# Altium schematic symbol library UWRT.SchLib: 11 symbols
Pins are listed as number, name and electrical type; pins without a type are passive.

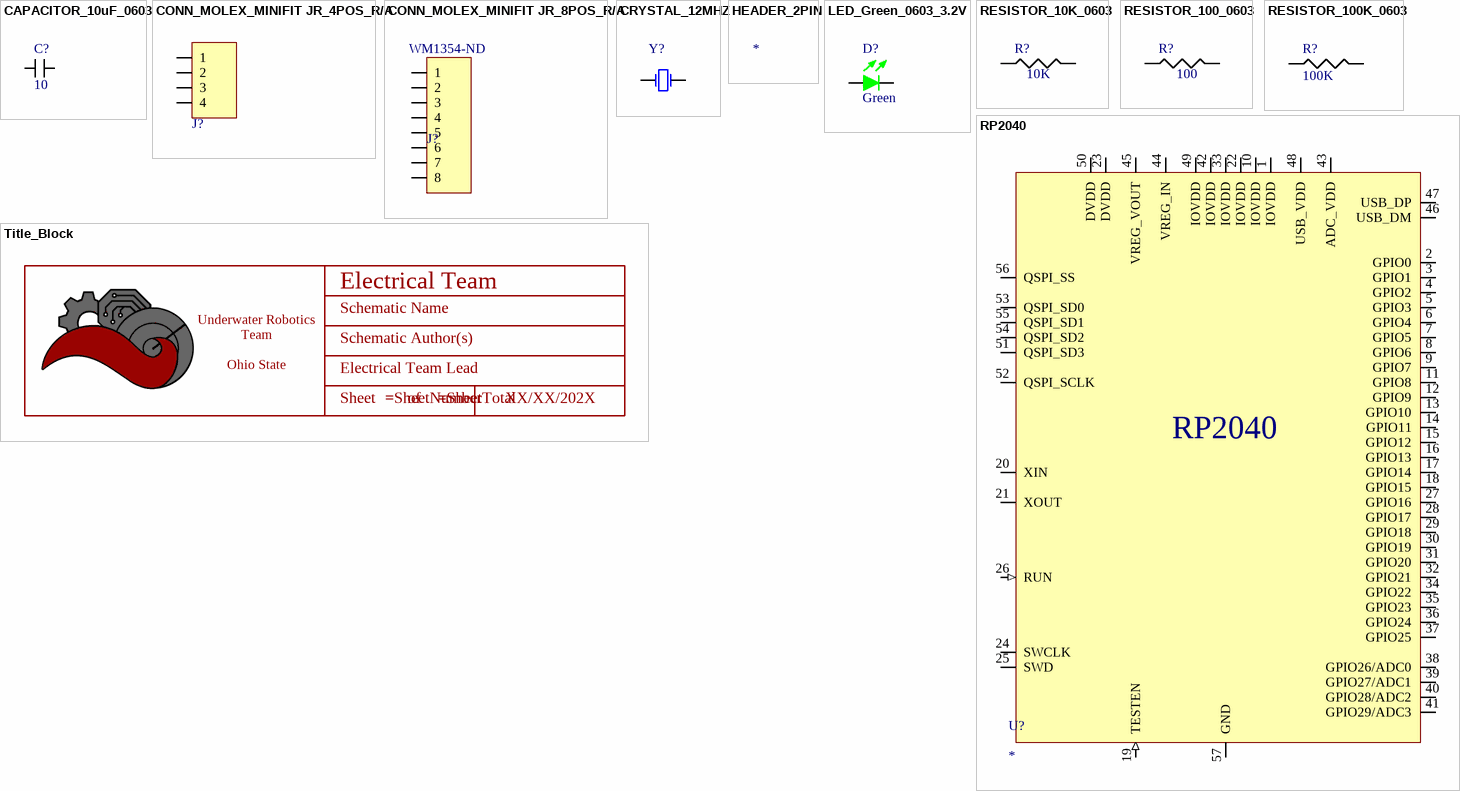
[diagram p0: symbols CAPACITOR_10uF_0603 to Title_Block]

## CAPACITOR_10uF_0603
designator C?, comment Value (uF): 10  (hidden comment: 10uF Ceramic 6.3V)
Cap 10uF 6.3V +/-20% / Ceramic 0603; Made By: Flip B; ComponentLink1Description: Digikey; ComponentLink1URL: https://www.digikey.com/en/products/detail/samsung-electro-mechanics/CL10A106MQ8NNNC/3886777; Supplier 1: Digi-Key; Supplier Part Number 1: 1276-1119-1-ND; Tolerance: +/- 20%; Voltage: 6.3V
footprint PASSIVE_CAPACITOR_0603
pins: 1, 2

## CONN_MOLEX_MINIFIT JR_4POS_R/A
designator J?, comment 4 POS R/A  (value not drawn)
Molex Minifit Jr. 5569 / 4 Pos R/A Natural; Pitch: 4.2mm; Configuration: Right Angle; Current Per Pin: 13A; Number of Positions: 4; Supplier Part Number 1: WM13112-ND; Supplier 1: Digi-Key; Manufacturer: Molex; Color: Natural; Created By: Flip B; ComponentLink1Description: Datasheet; ComponentLink1URL: https://www.molex.com/pdm_docs/sd/026013115_sd.pdf; Series: Minifit Jr 5569
footprint CONN_MOLEX_MINIFIT JR_4 POS_R/A (Molex Minifit Jr 5569 4 Pos R/A)
pins: 1, 2, 3, 4

## CONN_MOLEX_MINIFIT JR_8POS_R/A
designator J?, comment Supplier Part Number 1: WM1354-ND  (hidden comment: 8 POS R/A)
Molex Minifit Jr. 5569 / 8 Pos R/A Natural; Pitch: 4.2mm; Configuration: Right Angle; Current Per Pin: 13A; Number of Positions: 8; Manufacturer: Molex; Color: Natural; Created By: Flip B; ComponentLink1Description: Datasheet; ComponentLink1URL: https://www.molex.com/pdm_docs/ps/PS-5556-001.pdf; Series: Minifit Jr 5569; Supplier 1: Digi-Key
footprint CONN_MOLEX_MINIFIT JR_8 POS_R/A (Molex Minifit Jr 5569 8 Pos R/A)
pins: 1, 2, 3, 4, 5, 6, 7, 8

## CRYSTAL_12MHZ
designator Y?  (value not drawn)
CRYSTAL 12.0000MHZ 18PF TH; Supplier 1: Digi-Key; Supplier Part Number 1: 50-ECS-120-18-4X-CKM-ND
pins: 1, 2

## HEADER_2PIN
designator *  (value not drawn)

## LED_Green_0603_3.2V
designator D?, comment Color: Green  (hidden comment: 150060GS75000)
LED Green Vf= 3.2V If = 0.025A / 150060GS75000; Made By: Flip B; Forward Current: 25mA; Supplier 1: Digi-Key; ComponentLink1Description: Datasheet; ComponentLink1URL: https://www.we-online.de/katalog/datasheet/150060GS75000.pdf; Supplier Part Number 1: 732-4971-1-ND; Forward Voltage: 3.2V; Package: 0603
footprint LED_Green_0603_3.2V (LED Green 0603 3.2V)
pins: 1, 2

## RESISTOR_10K_0603
designator R?, comment Value  (Ohms): 10K  (hidden comment: 10k Ohm 5% 1/10W)
RES SMD 10K OHM 5% 1/10W 0603; Tolerance: +/- 5%; Made By: Robert P; ComponentLink1Description: Datasheet; ComponentLink1URL: https://www.bourns.com/docs/product-datasheets/CRxxxxx.pdf; Wattage: 1/10W; Supplier: Digikey; Digikey Part Numer: CR0603-JW-104ELFTR-ND; Supplier 1: Digi-Key; Supplier Part Number 1: CR0603-JW-103ELFCT-ND
footprint RESISTOR_0603 (Resistor 0603)
pins: 1, 2

## RESISTOR_100_0603
designator R?, comment Value  (Ohms): 100  (hidden comment: 100 Ohm 5% 1/8W)
RES 100 OHM 5% 1/8W 0603; Tolerance: +/- 5%; Made By: Flip B; ComponentLink1Description: Digikey; ComponentLink1URL: https://www.digikey.com/en/products/detail/koa-speer-electronics-inc/RK73B1JTTD101J/9844701; Supplier 1: Digi-Key; Supplier Part Number 1: 2019-RK73B1JTTD101JCT-ND; Wattage: 1/8W
footprint RESISTOR_0603 (Resistor 0603)
pins: 1, 2

## RESISTOR_100K_0603
designator R?, comment Value  (Ohms): 100K  (hidden comment: 100k Ohm 5% 1/8W)
RES 100k OHM 5% 1/10W 0603; Tolerance: +/- 5%; Made By: Flip B; ComponentLink1Description: Datasheet; ComponentLink1URL: https://www.bourns.com/docs/product-datasheets/CRxxxxx.pdf; Wattage: 1/10W; Supplier: Digikey; Digikey Part Numer: CR0603-JW-104ELFTR-ND; Supplier 1: Digi-Key; Supplier Part Number 1: CR0603-JW-104ELFCT-ND
footprint RESISTOR_0603 (Resistor 0603)
pins: 1, 2

## RP2040
designator U?
Raspberry Pi RP2040; ComponentLink1Description: DigiKey; ComponentLink1URL: *
footprint QFN-56 RP2040 (QFN, 56-Leads, Body 7.00x7.00mm, Pitch 0.40mm, Thermal Pad 3.10x3.10mm, IPC Medium Density)
pins: 1 IOVDD (power), 2 GPIO0 (io) "GPIO2", 3 GPIO1 (io), 4 GPIO2 (io), 5 GPIO3 (io), 6 GPIO4 (io), 7 GPIO5 (io), 8 GPIO6 (io), 9 GPIO7 (io), 10 IOVDD (power), 11 GPIO8 (io), 12 GPIO9 (io), 13 GPIO10 (io), 14 GPIO11 (io), 15 GPIO12 (io), 16 GPIO13 (io), 17 GPIO14 (io), 18 GPIO15 (io), 19 TESTEN (in), 20 XIN, 21 XOUT, 22 IOVDD (power), 23 DVDD (power), 24 SWCLK (io), 25 SWD (io), 26 RUN (in), 27 GPIO16 (io), 28 GPIO17 (io), 29 GPIO18 (io), 30 GPIO19 (io), 31 GPIO20 (io), 32 GPIO21 (io), 33 IOVDD (power), 34 GPIO22 (io), 35 GPIO23 (io), 36 GPIO24 (io), 37 GPIO25 (io), 38 GPIO26/ADC0 (io), 39 GPIO27/ADC1 (io), 40 GPIO28/ADC2 (io), 41 GPIO29/ADC3 (io), 42 IOVDD (power), 43 ADC_VDD (power), 44 VREG_IN (power), 45 VREG_VOUT (power), 46 USB_DM (io), 47 USB_DP (io), 48 USB_VDD (power), 49 IOVDD (power), 50 DVDD (power), 51 QSPI_SD3 (io), 52 QSPI_SCLK (io), 53 QSPI_SD0 (io), 54 QSPI_SD2 (io), 55 QSPI_SD1 (io), 56 QSPI_SS (io), 57 GND (power)

## Title_Block
designator *  (value not drawn)  (graphical)
UWRT Schematic Title Block Template / Created June 2021, Dylan Trainor
text: Electrical Team; Schematic Name; Schematic Author(s); Underwater Robotics Team / Ohio State University; Electrical Team Lead; Sheet; of; XX/XX/202X